# Altium footprint library SM_VQFN-32.PcbLib: 1 footprints
Each footprint in its own frame and in the unit in brackets; x right, y up, seen from the top. Pads: shape width x height; smd on the part's side, far side on the other; paste and mask are expansions set on the pad; w line width, h text height; cw(c..) or ccw(c..) is an arc to the next point about the centre after c.
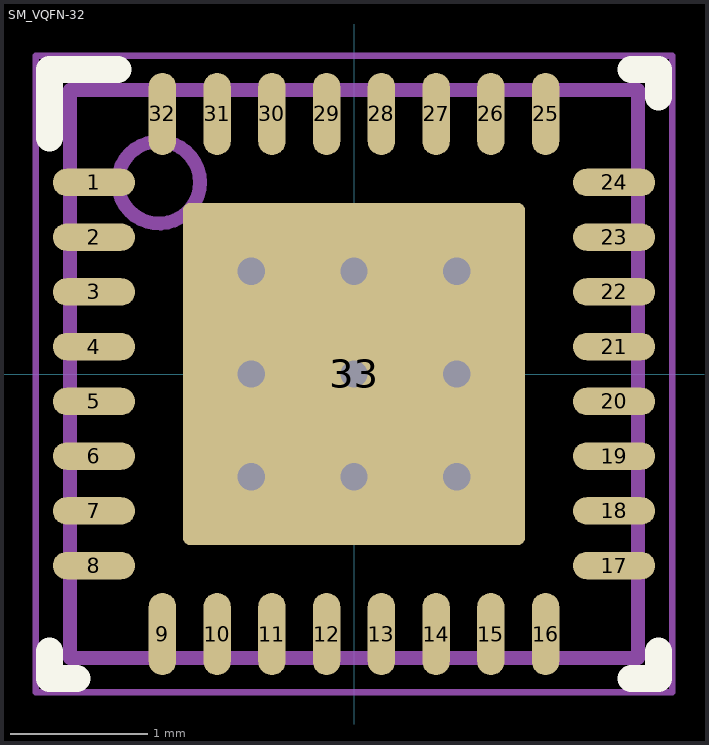
[diagram p0: the footprint, top view; thin cyan lines are the x and y axes]

## SM_VQFN-32 [mm] "bq40z50-R1"
pads (33):
  oval 0.6x0.2 smd mask+0.05: 1(-1.9,1.4) 2(-1.9,1) 3(-1.9,0.6) 4(-1.9,0.2) 5(-1.9,-0.2) 6(-1.9,-0.6) 7(-1.9,-1) 8(-1.9,-1.4) 17(1.9,-1.4) 18(1.9,-1) 19(1.9,-0.6) 20(1.9,-0.2) 21(1.9,0.2) 22(1.9,0.6) 23(1.9,1) 24(1.9,1.4)
  oval 0.2x0.6 smd mask+0.05: 9(-1.4,-1.9) 10(-1,-1.9) 11(-0.6,-1.9) 12(-0.2,-1.9) 13(0.2,-1.9) 14(0.6,-1.9) 15(1,-1.9) 16(1.4,-1.9) 25(1.4,1.9) 26(1,1.9) 27(0.6,1.9) 28(0.2,1.9) 29(-0.2,1.9) 30(-0.6,1.9) 31(-1,1.9) 32(-1.4,1.9)
  rrect4% 2.5x2.5 smd paste-0.05: 33(0,0)
via 0,0 diameter 0.5 hole 0.2
via 0.75,0 diameter 0.5 hole 0.2
via -0.75,0 diameter 0.5 hole 0.2
via -0.75,0.75 diameter 0.5 hole 0.2
via 0,0.75 diameter 0.5 hole 0.2
via 0.75,0.75 diameter 0.5 hole 0.2
via 0.75,-0.75 diameter 0.5 hole 0.2
via -0.75,-0.75 diameter 0.5 hole 0.2
via 0,-0.75 diameter 0.5 hole 0.2
Top Overlay:
  lines w0.2: -2.225,-2.025 -2.225,-2.225 -2.025,-2.225 ; -2.225,1.725 -2.225,2.225 -1.725,2.225 ; 2.025,-2.225 2.225,-2.225 2.225,-2.025 ; 2.025,2.225 2.225,2.225 2.225,2.025
Mechanical 13:
  circle w0.1: c-1.425,1.4 r0.3
  lines w0.1: -2.075,-2.075 2.075,-2.075 2.075,2.075 -2.075,2.075 -2.075,-2.075
Mechanical 15:
  lines w0.05: -2.325,-2.325 2.325,-2.325 2.325,2.325 -2.325,2.325 -2.325,-2.325
  lines w0.1: -0.5,0 0.5,0 ; 0,-0.5 0,0.5
3D body: height 1.01, standoff 0.5, extent -1.724,1.101 -1.126,1.699
3D body: height 1, standoff 0, extent -2.075,-2.075 2.075,2.075